# Altium footprint library UC-526 - 2.PcbLib: 26 footprints (part 1 of 2)
Each footprint in its own frame and in the unit in brackets; x right, y up, seen from the top. Pads: shape width x height; smd on the part's side, far side on the other; paste and mask are expansions set on the pad; w line width, h text height; cw(c..) or ccw(c..) is an arc to the next point about the centre after c.
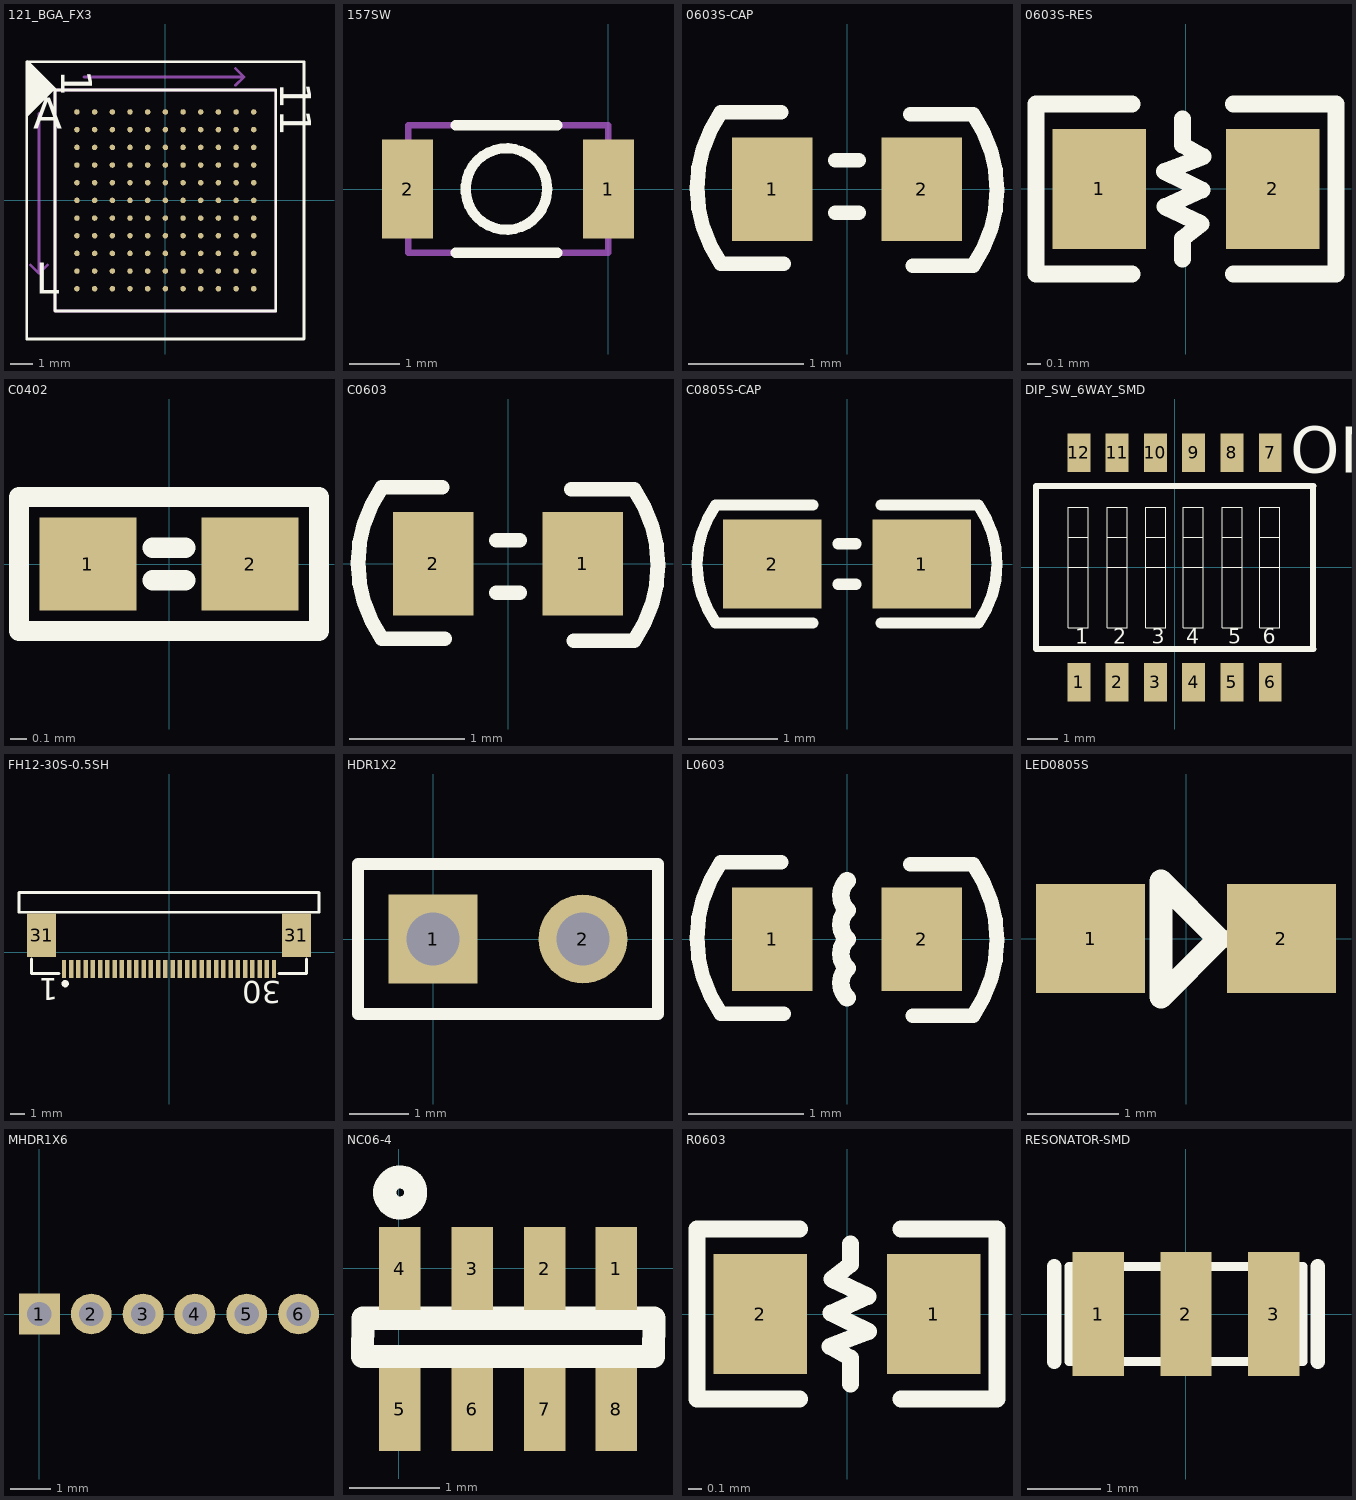
[diagram p0: the footprints below, top view; thin cyan lines are the x and y axes]

## 121_BGA_FX3 [mm]
pads (121):
  round 0.25 smd: A1(-3.999,3.999) A2(-3.199,3.999) A3(-2.4,3.999) A4(-1.6,3.999) A5(-0.8,3.999) A6(0,3.999) A7(0.8,3.999) A8(1.6,3.999) A9(2.4,3.999) A10(3.199,3.999) A11(3.999,3.999) B1(-3.999,3.199) B2(-3.199,3.199) B3(-2.4,3.199) B4(-1.6,3.199) B5(-0.8,3.199) B6(0,3.199) B7(0.8,3.199) B8(1.6,3.199) B9(2.4,3.199) B10(3.199,3.199) B11(3.999,3.199) C1(-3.999,2.4) C2(-3.199,2.4) C3(-2.4,2.4) C4(-1.6,2.4) C5(-0.8,2.4) C6(0,2.4) C7(0.8,2.4) C8(1.6,2.4) C9(2.4,2.4) C10(3.199,2.4) C11(3.999,2.4) D1(-3.999,1.6) D2(-3.199,1.6) D3(-2.4,1.6) D4(-1.6,1.6) D5(-0.8,1.6) D6(0,1.6) D7(0.8,1.6) D8(1.6,1.6) D9(2.4,1.6) D10(3.199,1.6) D11(3.999,1.6) E1(-3.999,0.8) E2(-3.199,0.8) E3(-2.4,0.8) E4(-1.6,0.8) E5(-0.8,0.8) E6(0,0.8) E7(0.8,0.8) E8(1.6,0.8) E9(2.4,0.8) E10(3.199,0.8) E11(3.999,0.8) F1(-3.999,0) F2(-3.199,0) F3(-2.4,0) F4(-1.6,0) F5(-0.8,0) F6(0,0) F7(0.8,0) F8(1.6,0) F9(2.4,0) F10(3.199,0) F11(3.999,0) G1(-3.999,-0.8) G2(-3.199,-0.8) G3(-2.4,-0.8) G4(-1.6,-0.8) G5(-0.8,-0.8) G6(0,-0.8) G7(0.8,-0.8) G8(1.6,-0.8) G9(2.4,-0.8) G10(3.199,-0.8) G11(3.999,-0.8) H1(-3.999,-1.6) H2(-3.199,-1.6) H3(-2.4,-1.6) H4(-1.6,-1.6) H5(-0.8,-1.6) H6(0,-1.6) H7(0.8,-1.6) H8(1.6,-1.6) H9(2.4,-1.6) H10(3.199,-1.6) H11(3.999,-1.6) J1(-3.999,-2.4) J2(-3.199,-2.4) J3(-2.4,-2.4) J4(-1.6,-2.4) J5(-0.8,-2.4) J6(0,-2.4) J7(0.8,-2.4) J8(1.6,-2.4) J9(2.4,-2.4) J10(3.199,-2.4) J11(3.999,-2.4) K1(-3.999,-3.199) K2(-3.199,-3.199) K3(-2.4,-3.199) K4(-1.6,-3.199) K5(-0.8,-3.199) K6(0,-3.199) K7(0.8,-3.199) K8(1.6,-3.199) K9(2.4,-3.199) K10(3.199,-3.199) K11(3.999,-3.199) L1(-3.999,-3.999) L2(-3.199,-3.999) L3(-2.4,-3.999) L4(-1.6,-3.999) L5(-0.8,-3.999) L6(0,-3.999) L7(0.8,-3.999) L8(1.6,-3.999) L9(2.4,-3.999) L10(3.199,-3.999) L11(3.999,-3.999)
Top Overlay:
  region: -6.223,6.35 -6.223,3.81 -4.953,5.08
  lines w0.127: -6.274,-6.274 -6.274,6.274 6.274,6.274 6.274,-6.274 -6.274,-6.274 ; -5,-5 -5,5 5,5 5,-5 -5,-5
  text "1" at -4.704,5.905 h1.4
  text "11" at 5.207,5.334 h1.4
  text "A" at -5.984,3.241 h1.4
  text "L" at -5.857,-4.227 h1.4
Mechanical 15:
  lines w0.127: -6.096,-2.921 -5.715,-3.302 ; -5.715,3.937 -5.715,-3.302 ; -5.334,-2.921 -5.715,-3.302 ; -3.683,5.588 3.556,5.588 ; 3.175,5.207 3.556,5.588 ; 3.175,5.969 3.556,5.588 ; -5,-5 -5,5 5,5 5,-5 -5,-5
  text "1" at -4.191,5.461 h1.4
  text "11" at 3.81,5.334 h1.4
  text "L" at -5.817,-4.445 h1.4
  text "A" at -5.842,4.064 h1.4
Mechanical 16:
  text "G11" at 3.999,0.054 h1.4
  text "L11" at 3.999,-3.146 h1.4
  text "B7" at 0.8,3.768 h1.4
  text "D8" at 1.6,2.169 h1.4
  text "B9" at 2.4,3.768 h1.4
  text "B8" at 1.6,3.768 h1.4
  text "A8" at 1.6,4.568 h1.4
  text "L3" at -2.4,-3.43 h1.4
  text "K4" at -1.6,-2.63 h1.4
  text "G1" at -3.999,-0.231 h1.4
  text "K3" at -2.4,-2.63 h1.4
  text "L1" at -3.999,-3.43 h1.4
  text "L2" at -3.199,-3.43 h1.4
  text "E2" at -3.199,1.369 h1.4
  text "A1" at -3.999,4.568 h1.4
  text "L6" at 0,-3.43 h1.4
  text "B5" at -0.8,3.768 h1.4
  text "A2" at -3.199,4.568 h1.4
  text "C11" at 3.999,3.253 h1.4
  text "B1" at -3.999,3.768 h1.4
  text "C6" at 0,2.968 h1.4
  text "E6" at 0,1.369 h1.4
  text "B4" at -1.6,3.768 h1.4
  text "B2" at -3.199,3.768 h1.4
  text "C7" at 0.8,2.968 h1.4
  text "L4" at -1.6,-3.43 h1.4
  text "L8" at 1.6,-3.43 h1.4
  text "H4" at -1.6,-1.031 h1.4
  text "G4" at -1.6,-0.231 h1.4
  text "A3" at -2.4,4.568 h1.4
  text "A9" at 2.4,4.568 h1.4
  text "A10" at 3.199,4.853 h1.4
  text "A7" at 0.8,4.568 h1.4
  text "E11" at 3.999,1.653 h1.4
  text "A4" at -1.6,4.568 h1.4
  text "D10" at 3.199,2.453 h1.4
  text "D9" at 2.4,2.169 h1.4
  text "F11" at 3.999,0.853 h1.4
  text "J11" at 3.999,-1.546 h1.4
  text "C3" at -2.4,2.968 h1.4
  text "H1" at -3.999,-1.031 h1.4
  text "L5" at -0.8,-3.43 h1.4
  text "L7" at 0.8,-3.43 h1.4
  text "B10" at 3.199,4.053 h1.4
  text "E9" at 2.4,1.369 h1.4
  text "C1" at -3.999,2.968 h1.4
  text "D6" at 0,2.169 h1.4
  text "D7" at 0.8,2.169 h1.4
  text "D5" at -0.8,2.169 h1.4
  text "D3" at -2.4,2.169 h1.4
  text "C2" at -3.199,2.968 h1.4
  text "K7" at 0.8,-2.63 h1.4
  text "A6" at 0,4.568 h1.4
  text "G7" at 0.8,-0.231 h1.4
  text "A5" at -0.8,4.568 h1.4
  text "H7" at 0.8,-1.031 h1.4
  text "B3" at -2.4,3.768 h1.4
  text "C8" at 1.6,2.968 h1.4
  text "J7" at 0.8,-1.831 h1.4
  text "J6" at 0,-1.831 h1.4
  text "K8" at 1.6,-2.63 h1.4
  text "D4" at -1.6,2.169 h1.4
  text "D1" at -3.999,2.169 h1.4
  text "C5" at -0.8,2.968 h1.4
  text "C4" at -1.6,2.968 h1.4
  text "D2" at -3.199,2.169 h1.4
  text "B6" at 0,3.768 h1.4
  text "F6" at 0,0.569 h1.4
  text "E7" at 0.8,1.369 h1.4
  text "C10" at 3.199,3.253 h1.4
  text "E8" at 1.6,1.369 h1.4
  text "B11" at 3.999,4.053 h1.4
  text "J2" at -3.199,-1.831 h1.4
  text "H2" at -3.199,-1.031 h1.4
  text "G3" at -2.4,-0.231 h1.4
  text "H3" at -2.4,-1.031 h1.4
  text "F9" at 2.4,0.569 h1.4
  text "H5" at -0.8,-1.031 h1.4
  text "H6" at 0,-1.031 h1.4
  text "H8" at 1.6,-1.031 h1.4
  text "K5" at -0.8,-2.63 h1.4
  text "G5" at -0.8,-0.231 h1.4
  text "F7" at 0.8,0.569 h1.4
  text "K10" at 3.199,-2.346 h1.4
  text "J8" at 1.6,-1.831 h1.4
  text "H10" at 3.199,-0.746 h1.4
  text "G10" at 3.199,0.054 h1.4
  text "K11" at 3.999,-2.346 h1.4
  text "G9" at 2.4,-0.231 h1.4
  text "J5" at -0.8,-1.831 h1.4
  text "H9" at 2.4,-1.031 h1.4
  text "F10" at 3.199,0.853 h1.4
  text "J9" at 2.4,-1.831 h1.4
  text "K9" at 2.4,-2.63 h1.4
  text "K6" at 0,-2.63 h1.4
  text "G6" at 0,-0.231 h1.4
  text "J10" at 3.199,-1.546 h1.4
  text "K1" at -3.999,-2.63 h1.4
  text "F3" at -2.4,0.569 h1.4
  text "F8" at 1.6,0.569 h1.4
  text "L10" at 3.199,-3.146 h1.4
  text "G8" at 1.6,-0.231 h1.4
  text "E1" at -3.999,1.369 h1.4
  text "K2" at -3.199,-2.63 h1.4
  text "F5" at -0.8,0.569 h1.4
  text "G2" at -3.199,-0.231 h1.4
  text "E5" at -0.8,1.369 h1.4
  text "E4" at -1.6,1.369 h1.4
  text "J1" at -3.999,-1.831 h1.4
  text "J3" at -2.4,-1.831 h1.4
  text "F4" at -1.6,0.569 h1.4
  text "J4" at -1.6,-1.831 h1.4
  text "H11" at 3.999,-0.746 h1.4
  text "L9" at 2.4,-3.43 h1.4
  text "F1" at -3.999,0.569 h1.4
  text "E3" at -2.4,1.369 h1.4
  text "F2" at -3.199,0.569 h1.4
  text "C9" at 2.4,2.968 h1.4
  text "A11" at 3.999,4.853 h1.4
  text "D11" at 3.999,2.453 h1.4
  text "E10" at 3.199,1.653 h1.4

## 157SW [mil]
pads (2):
  rect 40x78 smd: 1(0,0) 2(-157.5,0)
Top Overlay:
  circle w8: c-80,0 r32.01
  lines w8: -120,-50 -40,-50 ; -120,50 -40,50
Mechanical 16:
  circle w5: c-80,0 r32.01
  lines w5: -157,-50 -157,50 0,50 0,-50 -157,-50

## 0603S-CAP [mm]
pads (2):
  rect 0.7x0.9 smd: 1(-0.65,0) 2(0.65,0)
Top Overlay:
  lines w0.127: -1.098,-0.65 -0.55,-0.65 ; -1.098,-0.647 cw(c-0.163,0.01) -1.098,0.668 ; -1.098,0.671 -0.575,0.671 ; -0.102,-0.204 0.102,-0.204 ; -0.102,0.254 0.102,0.254 ; 0.55,0.654 1.098,0.654 ; 0.575,-0.667 1.098,-0.667 ; 1.098,-0.664 ccw(c0.163,-0.007) 1.098,0.65

## 0603S-RES [mm]
pads (2):
  rect 0.7x0.9 smd: 1(-0.65,0) 2(0.65,0)
Top Overlay:
  lines w0.127: -0.406,-0.635 -1.123,-0.635 -1.123,0.635 -0.406,0.635 ; -0.028,0.524 -0.028,0.331 0.127,0.242 -0.16,0.13 0.12,-0.007 -0.157,-0.132 0.112,-0.261 -0.025,-0.37 -0.025,-0.525 ; 0.356,-0.635 1.123,-0.635 1.123,0.635 0.356,0.635

## C0402 [mil]
pads (2):
  rect 24x23 smd: 1(-20,0) 2(20,0)
Top Overlay:
  lines w5: -4,-4 4,-4 ; -4,4 4,4 ; -37,-16.5 37,-16.5 37,16.5 -37,16.5 -37,-16.5
3D body: height 19.84, standoff 0.16, extent -20,-10 19.37,10.08

## C0603 [mm]
pads (2):
  rect 0.7x0.9 smd: 1(0.65,0) 2(-0.65,0)
Top Overlay:
  lines w0.127: -1.098,-0.654 -0.55,-0.654 ; -1.098,-0.65 cw(c-0.163,0.007) -1.098,0.664 ; -1.098,0.667 -0.575,0.667 ; -0.102,-0.254 0.102,-0.254 ; -0.102,0.204 0.102,0.204 ; 0.55,0.65 1.098,0.65 ; 0.575,-0.671 1.098,-0.671 ; 1.098,-0.668 ccw(c0.163,-0.01) 1.098,0.647

## C0805S-CAP [mm]
pads (2):
  rect 1.1x1 smd: 1(0.838,0) 2(-0.838,0)
Top Overlay:
  lines w0.127: -1.473,-0.66 -0.381,-0.66 ; -1.473,-0.657 cw(c-0.538,0) -1.473,0.657 ; -1.473,0.66 -0.381,0.66 ; -0.102,-0.229 0.102,-0.229 ; -0.102,0.229 0.102,0.229 ; 0.381,-0.66 1.473,-0.66 ; 0.381,0.66 1.473,0.66 ; 1.473,-0.657 ccw(c0.538,0) 1.473,0.657

## DIP_SW_6WAY_SMD [mm]
pads (12):
  rect 0.76x1.27 smd: 1(-3.175,-3.81) 2(-1.905,-3.81) 3(-0.635,-3.81) 4(0.635,-3.81) 5(1.905,-3.81) 6(3.175,-3.81) 7(3.175,3.81) 8(1.905,3.81) 9(0.635,3.81) 10(-0.635,3.81) 11(-1.905,3.81) 12(-3.175,3.81)
Top Overlay:
  lines w0.025: -3.53,0 -2.865,0 ; -3.53,1 -2.865,1 ; -2.23,0 -1.565,0 ; -2.23,1 -1.565,1 ; -0.955,0 -0.29,0 ; -0.955,1 -0.29,1 ; 0.295,0 0.96,0 ; 0.295,1 0.96,1 ; 1.585,0 2.25,0 ; 1.585,1 2.25,1 ; 2.835,0 3.5,0 ; 2.835,1 3.5,1 ; -3.53,-2 -2.865,-2 -2.865,2 -3.53,2 -3.53,-2 ; -2.23,-2 -1.565,-2 -1.565,2 -2.23,2 -2.23,-2 ; -0.955,-2 -0.29,-2 -0.29,2 -0.955,2 -0.955,-2 ; 0.295,-2 0.96,-2 0.96,2 0.295,2 0.295,-2 ; 1.585,-2 1.585,2 2.25,2 2.25,-2 1.585,-2 ; 2.835,-2 2.835,2 3.5,2 3.5,-2 2.835,-2
  lines w0.2: 4.6,-2.7 4.6,2.7 ; 4.605,-2.7 -4.6,-2.7 -4.6,2.7 4.605,2.7
  text "6" at 2.921,-2.54 h0.5
  text "5" at 1.778,-2.54 h0.5
  text "1" at -3.302,-2.54 h0.5
  text "2" at -2.032,-2.54 h0.5
  text "3" at -0.762,-2.54 h0.5
  text "4" at 0.381,-2.54 h0.5
  text "ON" at 3.835,3.15 h1.52

## FH12-30S-0.5SH [mm]
pads (32):
  rect 0.3x1.25 smd: 1(-7.25,-1.162) 2(-6.75,-1.162) 3(-6.25,-1.162) 4(-5.75,-1.162) 5(-5.25,-1.162) 6(-4.75,-1.162) 7(-4.25,-1.162) 8(-3.75,-1.162) 9(-3.25,-1.162) 10(-2.75,-1.162) 11(-2.25,-1.162) 12(-1.75,-1.162) 13(-1.25,-1.162) 14(-0.75,-1.162) 15(-0.25,-1.162) 16(0.25,-1.162) 17(0.75,-1.162) 18(1.25,-1.162) 19(1.75,-1.162) 20(2.25,-1.162) 21(2.75,-1.162) 22(3.25,-1.162) 23(3.75,-1.162) 24(4.25,-1.162) 25(4.75,-1.162) 26(5.25,-1.162) 27(5.75,-1.162) 28(6.25,-1.162) 29(6.75,-1.162) 30(7.25,-1.162)
  rect 2x3 smd: 31(-8.79,1.163) 31(8.79,1.163)
Top Overlay:
  circle w0.25: c-7.163,-2.182 r0.125
  lines w0.178: -10.35,2.752 -10.35,4.108 10.35,4.108 10.35,2.758 -10.35,2.758
  lines w0.2: -9.5,-0.492 -9.5,-1.492 -7.6,-1.492 ; 7.6,-1.492 9.5,-1.492 9.5,-0.492
  text "30" at 7.747,-2.032 h1.52
  text "1" at -7.645,-1.803 h1.52

## HDR1X2 [mm]
pads (2):
  rect 1.5x1.5 hole 0.9: 1(0,0)
  round 1.5 hole 0.9: 2(2.54,0)
Top Overlay:
  lines w0.2: -1.27,-1.27 -1.27,1.27 3.81,1.27 3.81,-1.27 -1.27,-1.27

## L0603 [mm]
pads (2):
  rect 0.7x0.9 smd: 1(-0.65,0) 2(0.65,0)
Top Overlay:
  lines w0.127: -1.098,-0.65 -0.55,-0.65 ; -1.098,-0.647 cw(c-0.163,0.01) -1.098,0.668 ; -1.098,0.671 -0.575,0.671 ; 0.55,0.654 1.098,0.654 ; 0.575,-0.667 1.098,-0.667 ; 1.098,-0.664 ccw(c0.163,-0.007) 1.098,0.65
  lines w0.152: 0,-0.508 cw(c0.127,-0.381) 0,-0.254 cw(c0.127,-0.127) 0,0 cw(c0.127,0.127) 0,0.254 cw(c0.127,0.381) 0,0.508

## LED0805S [mm]
pads (2):
  rect 1.2x1.2 smd: 1(-1.05,0) 2(1.05,0)
Top Overlay:
  lines w0.254: -0.275,-0.64 0.36,-0.005 -0.275,0.63 -0.275,-0.64
3D body: height 0.85, standoff 0.01, extent -0.983,-0.458 1.079,0.448

## MHDR1X6 [mm]
pads (6):
  rect 1x1 hole 0.6: 1(0,0)
  round 1 hole 0.6: 2(1.27,0) 3(2.54,0) 4(3.81,0) 5(5.08,0) 6(6.35,0)

## NC06-4 [mil]
pads (8):
  rect 18x36 smd: 1(94.4,-0.16) 2(63.39,-0.16) 3(31.9,-0.16) 4(0.4,-0.16) 5(0.4,-61.16) 6(31.9,-61.16) 7(63.39,-61.16) 8(94.4,-61.16)
Top Overlay:
  circle w10: c0.69,32.84 r6.71
  lines w10: -15.6,-38.16 -15.35,-21.67 110.64,-21.67 110.4,-38.16 -15.6,-38.16

## R0603 [mm]
pads (2):
  rect 0.7x0.9 smd: 1(0.65,0) 2(-0.65,0)
Top Overlay:
  lines w0.127: -0.356,-0.635 -1.123,-0.635 -1.123,0.635 -0.356,0.635 ; 0.025,0.525 0.025,0.37 -0.112,0.261 0.157,0.132 -0.12,0.007 0.16,-0.13 -0.127,-0.242 0.028,-0.331 0.028,-0.524 ; 0.406,-0.635 1.123,-0.635 1.123,0.635 0.406,0.635

## RESONATOR-SMD [mm]
pads (3):
  rect 0.7x1.7 smd: 1(-1.2,0) 2(0,0) 3(1.2,0)
Top Overlay:
  lines w0.127: -1.6,-0.65 -1.6,0.65 1.6,0.65 1.6,-0.65 -1.6,-0.65
  lines w0.203: -1.8,-0.65 -1.8,0.65 ; 1.8,-0.65 1.8,0.65